# EAGLE library part SN75LVDS83BDGGR (library SchlegelAr_Master)
SN75LVDS83BDGGR - Bussender FlatLink 10-135MHz Transmitter last modified: Armin Schlegel, 28.04.2014 http://de.mouser.com/ProductDetail/Texas-Instruments/SN75LVDS83BDGGR/?qs=%2Fha2pyFaduhUFID9k9uYqsoOJBy0IbxuibAsBHqa1LMrXVKttVeSnesdWlE%2FojUG http://www.mouser.com/ds/2/405/slls846b-121924.pdf
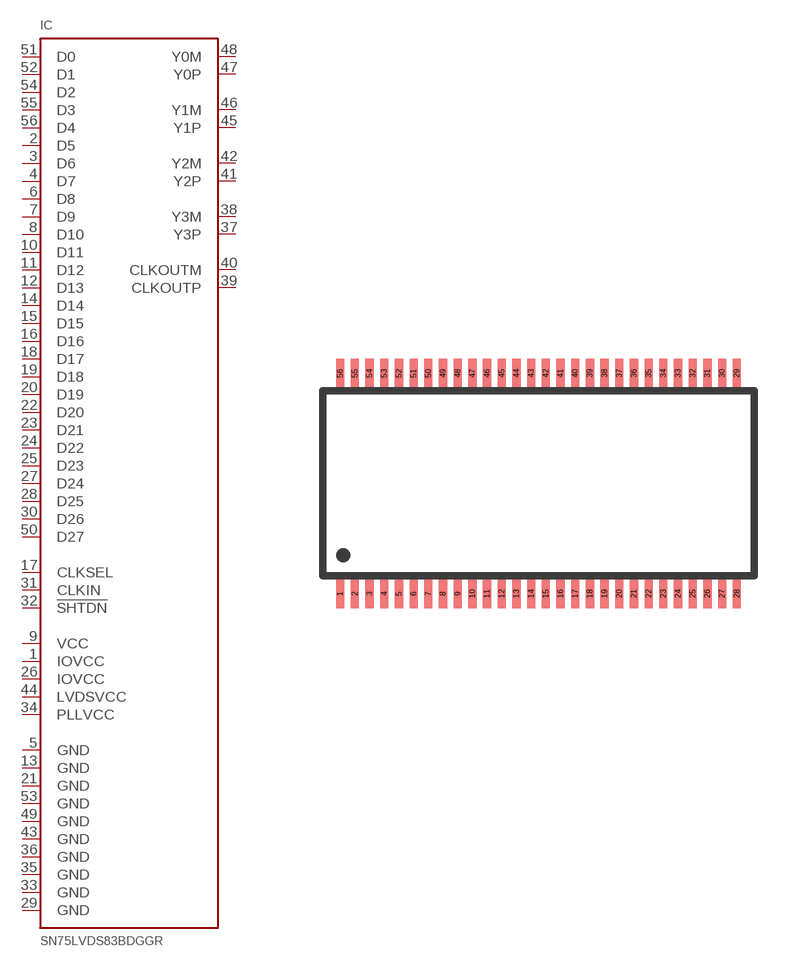
[diagram p3: symbol with the pads of TSSOP-56; footprint TSSOP-56]

Designator prefix IC

## SN75LVDS83BDGGR  [TSSOP-56]
1  IOVCC  pwr
2  D5
3  D6
4  D7
5  GND  pwr
6  D8
7  D9
8  D10
9  VCC  pwr
10  D11
11  D12
12  D13
13  GND  pwr
14  D14
15  D15
16  D16
17  CLKSEL
18  D17
19  D18
20  D19
21  GND  pwr
22  D20
23  D21
24  D22
25  D23
26  IOVCC  pwr
27  D24
28  D25
29  GND  pwr
30  D26
31  CLKIN
32  !SHTDN
33  GND  pwr
34  PLLVCC  pwr
35  GND  pwr
36  GND  pwr
37  Y3P
38  Y3M
39  CLKOUTP
40  CLKOUTM
41  Y2P
42  Y2M
43  GND  pwr
44  LVDSVCC  pwr
45  Y1P
46  Y1M
47  Y0P
48  Y0M
49  GND  pwr
50  D27
51  D0
52  D1
53  GND  pwr
54  D2
55  D3
56  D4

## Footprint TSSOP-56 (pad centres in mm)
smd 0.28 x 1: 1 -6.75,-3.85; 2 -6.25,-3.85; 3 -5.75,-3.85; 4 -5.25,-3.85; 5 -4.75,-3.85; 6 -4.25,-3.85; 7 -3.75,-3.85; 8 -3.25,-3.85; 9 -2.75,-3.85; 10 -2.25,-3.85; 11 -1.75,-3.85; 12 -1.25,-3.85; 13 -0.75,-3.85; 14 -0.25,-3.85; 15 0.25,-3.85; 16 0.75,-3.85; 17 1.25,-3.85; 18 1.75,-3.85; 19 2.25,-3.85; 20 2.75,-3.85; 21 3.25,-3.85; 22 3.75,-3.85; 23 4.25,-3.85; 24 4.75,-3.85; 25 5.25,-3.85; 26 5.75,-3.85; 27 6.25,-3.85; 28 6.75,-3.85; 29 6.75,3.65; 30 6.25,3.65; 31 5.75,3.65; 32 5.25,3.65; 33 4.75,3.65; 34 4.25,3.65; 35 3.75,3.65; 36 3.25,3.65; 37 2.75,3.65; 38 2.25,3.65; 39 1.75,3.65; 40 1.25,3.65; 41 0.75,3.65; 42 0.25,3.65; 43 -0.25,3.65; 44 -0.75,3.65; 45 -1.25,3.65; 46 -1.75,3.65; 47 -2.25,3.65; 48 -2.75,3.65; 49 -3.25,3.65; 50 -3.75,3.65; 51 -4.25,3.65; 52 -4.75,3.65; 53 -5.25,3.65; 54 -5.75,3.65; 55 -6.25,3.65; 56 -6.75,3.65